# Altium integrated library MP23ABS1TR.IntLib: 1 symbol
Pins are listed as number, name and electrical type; pins without a type are passive.

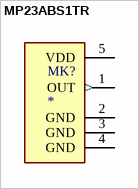
[diagram p0: symbol MP23ABS1TR]

## MP23ABS1TR
designator MK?
35 Hz ~ 1.5 kHz Analog Microphone MEMS (Silicon) Omnidirectional (-38dB Â±1dB @ 94dB SPL) Solder Pads; MF: STMicroelectronics; MP: MP23ABS1TR; SnapEDA_Link: https://www.snapeda.com/parts/MP23ABS1TR/STMicroelectronics/view-part/?ref=snap; Package: None; Value: *; Check_prices: https://www.snapeda.com/parts/MP23ABS1TR/STMicroelectronics/view-part/?ref=eda
footprint MIC_MP23ABS1TR
pins: 1 OUT (out), 2 GND (power), 3 GND (power), 4 GND (power), 5 VDD (power)